# Altium footprint library PcbLib.PcbLib: 26 footprints (part 2 of 2)
Each footprint in its own frame and in the unit in brackets; x right, y up, seen from the top. Pads: shape width x height; smd on the part's side, far side on the other; paste and mask are expansions set on the pad; w line width, h text height; cw(c..) or ccw(c..) is an arc to the next point about the centre after c.
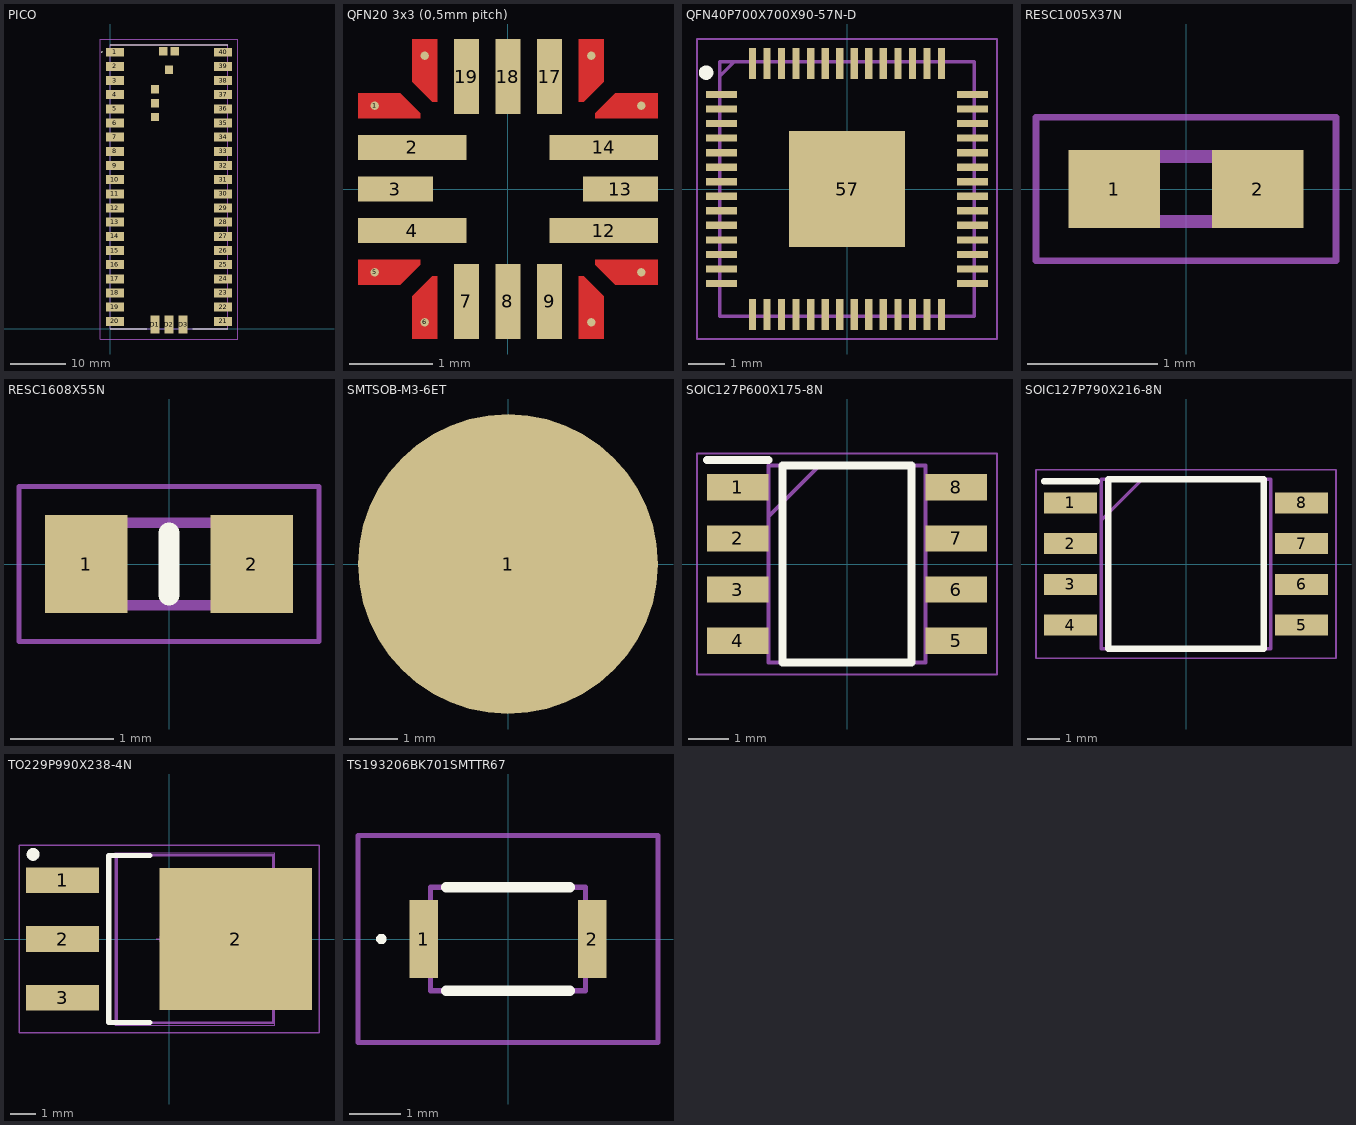
[diagram p1: the footprints below, top view; thin cyan lines are the x and y axes]

## PICO [mm]
pads (49):
  rect 3.2x1.6 smd: 1(0.81,49.63) 2(0.81,47.09) 3(0.81,44.55) 4(0.81,42.01) 5(0.81,39.47) 6(0.81,36.93) 7(0.81,34.39) 8(0.81,31.85) 9(0.81,29.31) 10(0.81,26.77) 11(0.81,24.23) 12(0.81,21.69) 13(0.81,19.15) 14(0.81,16.61) 15(0.81,14.07) 16(0.81,11.53) 17(0.81,8.99) 18(0.81,6.45) 19(0.81,3.91) 20(0.81,1.37) 21(20.19,1.37) 22(20.19,3.91) 23(20.19,6.45) 24(20.19,8.99) 25(20.19,11.53) 26(20.19,14.07) 27(20.19,16.61) 28(20.19,19.15) 29(20.19,21.69) 30(20.19,24.23) 31(20.19,26.77) 32(20.19,29.31) 33(20.19,31.85) 34(20.19,34.39) 35(20.19,36.93) 36(20.19,39.47) 37(20.19,42.01) 38(20.19,44.55) 39(20.19,47.09) 40(20.19,49.63)
  rect 1.6x3.2 smd: D1(7.96,0.8) D2(10.5,0.8) D3(13.04,0.8)
  rect 1.5x1.5 smd: TP1(10.5,46.5) TP2(11.5,49.8) TP3(9.5,49.8) TP4(8,43) TP5(8,40.5) TP6(8,38)
Top Overlay:
  lines w0.1: 0,0 6.5,0 0,0 ; 0,51 21,51 0,51 ; 14.75,0 21,0 14.75,0
  lines w0.2: -1.6,49.7 ccw(c-1.55,49.7) -1.5,49.7 ; -1.6,49.7 cw(c-1.55,49.7) -1.5,49.7 ; -1.6,49.7 ccw(c-1.55,49.7) -1.5,49.7
Mechanical 13:
  lines w0.2: 0,0 21,0 21,51 0,51 0,0
Mechanical 15:
  lines w0.1: -1.79,-1.8 22.79,-1.8 22.79,52 -1.79,52 -1.79,-1.8
3D body "PICO.stp": height 3.69, standoff 0, extent 0,0.03 21,52.456

## QFN20 3x3 (0,5mm pitch) [mm]
pads (20):
  round 0.1 smd: 1(-1.6,1) 5(-1.6,-1) 6(-1,-1.6) 10(1,-1.6) 11(1.6,-1) 15(1.6,1) 16(1,1.6) 20(-1,1.6)
  rect 1.3x0.3 smd: 2(-1.15,0.5) 4(-1.15,-0.5) 12(1.15,-0.5) 14(1.15,0.5)
  rect 0.9x0.3 smd: 3(-1.35,0) 13(1.35,0)
  rect 0.3x0.9 smd: 7(-0.5,-1.35) 8(0,-1.35) 9(0.5,-1.35) 17(0.5,1.35) 18(0,1.35) 19(-0.5,1.35)
Top Layer:
  region: 1.15,-1.8 1.15,-1.29 0.91,-1.05 0.85,-1.05 0.85,-1.8
  region: 1.8,-1.15 1.29,-1.15 1.05,-0.91 1.05,-0.85 1.8,-0.85
  region: 1.8,1.15 1.29,1.15 1.05,0.91 1.05,0.85 1.8,0.85
  region: 1.15,1.8 1.15,1.29 0.91,1.05 0.85,1.05 0.85,1.8
  region: -1.15,1.8 -1.15,1.29 -0.91,1.05 -0.85,1.05 -0.85,1.8
  region: -1.8,1.15 -1.29,1.15 -1.05,0.91 -1.05,0.85 -1.8,0.85
  region: -1.8,-1.15 -1.29,-1.15 -1.05,-0.91 -1.05,-0.85 -1.8,-0.85
  region: -1.15,-1.8 -1.15,-1.29 -0.91,-1.05 -0.85,-1.05 -0.85,-1.8
3D body: height 0.55, standoff 0, extent -1.5,-1.5 1.5,1.5

## QFN40P700X700X90-57N-D [mm]
pads (57):
  rect 0.85x0.2 smd: 1(-3.45,2.6) 2(-3.45,2.2) 3(-3.45,1.8) 4(-3.45,1.4) 5(-3.45,1) 6(-3.45,0.6) 7(-3.45,0.2) 8(-3.45,-0.2) 9(-3.45,-0.6) 10(-3.45,-1) 11(-3.45,-1.4) 12(-3.45,-1.8) 13(-3.45,-2.2) 14(-3.45,-2.6) 29(3.45,-2.6) 30(3.45,-2.2) 31(3.45,-1.8) 32(3.45,-1.4) 33(3.45,-1) 34(3.45,-0.6) 35(3.45,-0.2) 36(3.45,0.2) 37(3.45,0.6) 38(3.45,1) 39(3.45,1.4) 40(3.45,1.8) 41(3.45,2.2) 42(3.45,2.6)
  rect 0.2x0.85 smd: 15(-2.6,-3.45) 16(-2.2,-3.45) 17(-1.8,-3.45) 18(-1.4,-3.45) 19(-1,-3.45) 20(-0.6,-3.45) 21(-0.2,-3.45) 22(0.2,-3.45) 23(0.6,-3.45) 24(1,-3.45) 25(1.4,-3.45) 26(1.8,-3.45) 27(2.2,-3.45) 28(2.6,-3.45) 43(2.6,3.45) 44(2.2,3.45) 45(1.8,3.45) 46(1.4,3.45) 47(1,3.45) 48(0.6,3.45) 49(0.2,3.45) 50(-0.2,3.45) 51(-0.6,3.45) 52(-1,3.45) 53(-1.4,3.45) 54(-1.8,3.45) 55(-2.2,3.45) 56(-2.6,3.45)
  rect 3.2x3.2 smd: 57(0,0)
Top Overlay:
  circle w0.2: c-3.875,3.2 r0.1
Mechanical 13:
  lines w0.1: -3.5,3.1 -3.1,3.5 ; -3.5,-3.5 3.5,-3.5 3.5,3.5 -3.5,3.5 -3.5,-3.5
Mechanical 15:
  lines w0.05: -4.125,-4.125 4.125,-4.125 4.125,4.125 -4.125,4.125 -4.125,-4.125
3D body "RPI_Chip_RP2040-10-10.stp": height 0.9, standoff 0, extent -3.55,-3.55 3.55,3.55

## RESC1005X37N [mm]
pads (2):
  rect 0.7x0.6 smd: 1(-0.55,0) 2(0.55,0)
Mechanical 13:
  lines w0.1: -0.5,-0.25 -0.5,0.25 0.5,0.25 0.5,-0.25 -0.5,-0.25
Mechanical 15:
  lines w0.05: -1.15,-0.55 -1.15,0.55 1.15,0.55 1.15,-0.55 -1.15,-0.55
3D body "MCS04020D1001BE000.stp": height 0.32, standoff 0, extent -0.5,-0.25 0.5,0.25

## RESC1608X55N [mm]
pads (2):
  rect 0.8x0.95 smd: 1(-0.8,0) 2(0.8,0)
Top Overlay:
  lines w0.2: 0,-0.3 0,0.3
Mechanical 13:
  lines w0.1: -0.8,-0.4 -0.8,0.4 0.8,0.4 0.8,-0.4 -0.8,-0.4
Mechanical 15:
  lines w0.05: -1.45,-0.75 -1.45,0.75 1.45,0.75 1.45,-0.75 -1.45,-0.75
3D body "RC0603JR-071KL.stp": height 0.55, standoff 0, extent -0.8,-0.4 0.8,0.4

## SMTSOB-M3-6ET [mm] "Distance M3"
pads (1):
  round 6.2 smd: 1(0,0)
3D body "SMTSOB-M3-6ET-PennEngineering-3D-11-10-2022 moded.STEP": height 6, standoff 0, extent -2.78,-2.78 2.78,2.78

## SOIC127P600X175-8N [mm]
pads (8):
  rect 1.525x0.65 smd: 1(-2.712,1.905) 2(-2.712,0.635) 3(-2.712,-0.635) 4(-2.712,-1.905) 5(2.712,-1.905) 6(2.712,-0.635) 7(2.712,0.635) 8(2.712,1.905)
Top Overlay:
  lines w0.2: -3.475,2.58 -1.95,2.58 ; -1.6,-2.45 -1.6,2.45 1.6,2.45 1.6,-2.45 -1.6,-2.45
Mechanical 13:
  lines w0.1: -1.95,1.18 -0.68,2.45 ; -1.95,-2.45 -1.95,2.45 1.95,2.45 1.95,-2.45 -1.95,-2.45
Mechanical 15:
  lines w0.05: -3.725,-2.75 -3.725,2.75 3.725,2.75 3.725,-2.75 -3.725,-2.75
3D body "NE555DR.stp": height 1.75, standoff 0, extent -3,-2.45 3,2.45

## SOIC127P790X216-8N [mm]
pads (8):
  rect 1.65x0.65 smd: 1(-3.6,1.905) 2(-3.6,0.635) 3(-3.6,-0.635) 4(-3.6,-1.905) 5(3.6,-1.905) 6(3.6,-0.635) 7(3.6,0.635) 8(3.6,1.905)
Top Overlay:
  lines w0.2: -4.425,2.58 -2.775,2.58 ; -2.425,-2.64 -2.425,2.64 2.425,2.64 2.425,-2.64 -2.425,-2.64
Mechanical 13:
  lines w0.1: -2.64,1.37 -1.37,2.64 ; -2.64,-2.64 -2.64,2.64 2.64,2.64 2.64,-2.64 -2.64,-2.64
Mechanical 15:
  lines w0.05: -4.675,-2.94 -4.675,2.94 4.675,2.94 4.675,-2.94 -4.675,-2.94
3D body "W25Q128JVSIM.stp": height 2.16, standoff 0, extent -3.95,-2.64 3.95,2.64

## TO229P990X238-4N [mm]
pads (4):
  rect 2.85x1 smd: 1(-4.15,2.29) 2(-4.15,0) 3(-4.15,-2.29)
  rect 5.95x5.55 smd: 2(2.6,0)
Top Overlay:
  circle w0.25: c-5.3,3.3 r0.125
  lines w0.2: -0.75,-3.25 -2.35,-3.25 -2.35,3.25 -0.75,3.25
Mechanical 13:
  lines w0.1: 4.062,-2.508 4.356,-2.508 4.952,-1.846 4.952,1.847 4.356,2.508 4.062,2.508 ; -2.032,-3.27 -2.032,3.27 4.062,3.27 4.062,-3.27 -2.032,-3.27
Mechanical 15:
  circle w0.05: c0,0 r0.35
  lines w0.001: -2.095,-3.365 -2.095,3.365 4.125,3.365 4.125,-3.365 -2.095,-3.365
  lines w0.05: -0.5,0 0.5,0 ; 0,-0.5 0,0.5 ; -5.85,-3.65 -5.85,3.65 5.85,3.65 5.85,-3.65 -5.85,-3.65
3D body "NCP1117DT33T5G.stp": height 2.39, standoff 0, extent -4.959,-3.27 4.959,3.27

## TS193206BK701SMTTR67 [mm]
pads (2):
  rect 0.55x1.5 smd: 1(-1.625,0) 2(1.625,0)
Top Overlay:
  lines w0.1: -2.5,0 cw(c-2.45,0) -2.4,0 cw(c-2.45,0) -2.5,0
  lines w0.2: -1.2,-1 1.2,-1 ; -1.2,1 1.2,1
Mechanical 13:
  lines w0.1: -1.5,-1 1.5,-1 1.5,1 -1.5,1 -1.5,-1
Mechanical 15:
  lines w0.1: -2.9,-2 2.9,-2 2.9,2 -2.9,2 -2.9,-2
3D body "TS19-32-06-BK-70-1-SMT-TR-67.stp": height 0.75, standoff 0, extent -1.845,-1 1.845,1